# Altium footprint library TO-263-2.PcbLib: 1 footprints
Each footprint in its own frame and in the unit in brackets; x right, y up, seen from the top. Pads: shape width x height; smd on the part's side, far side on the other; paste and mask are expansions set on the pad; w line width, h text height; cw(c..) or ccw(c..) is an arc to the next point about the centre after c.
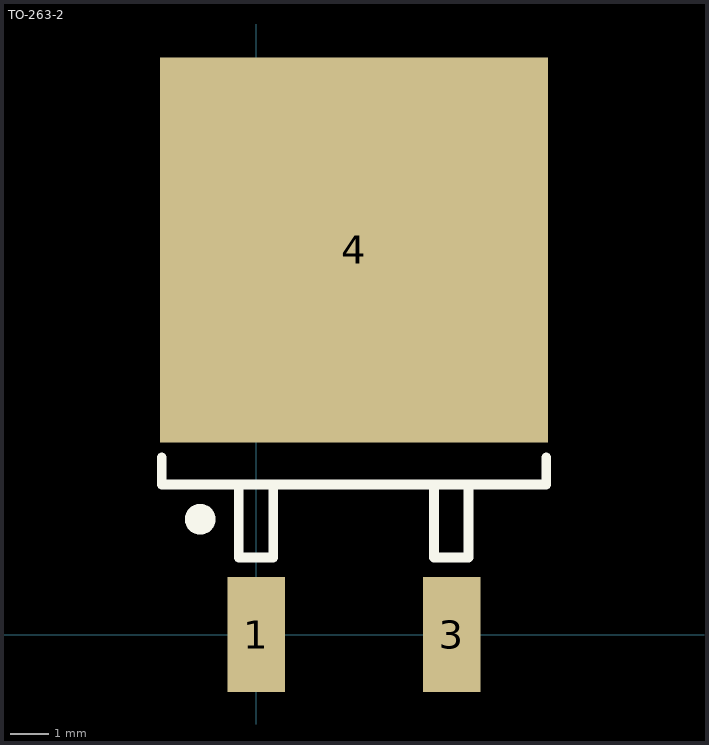
[diagram p0: the footprint, top view; thin cyan lines are the x and y axes]

## TO-263-2 [mm]
pads (3):
  rect 1.5x3 smd: 1(0,0) 3(5.08,0)
  rect 10.1x10 smd: 4(2.54,10)
Top Overlay:
  lines w0.254: -2.46,4.6 -2.46,3.9 7.54,3.9 7.54,4.6 ; -0.46,3.9 -0.46,2 0.44,2 0.44,3.9 ; 4.62,3.9 4.62,2 5.52,2 5.52,3.9
  lines w0.4: -1.26,2.997 cw(c-1.46,2.998) -1.26,3
Mechanical 15:
  lines w0.003: 3.023,6.852 3.073,6.902